# Altium schematic symbol library BiricuticoBonito.SchLib: 40 symbols (part 1 of 2)
Pins are listed as number, name and electrical type; pins without a type are passive.

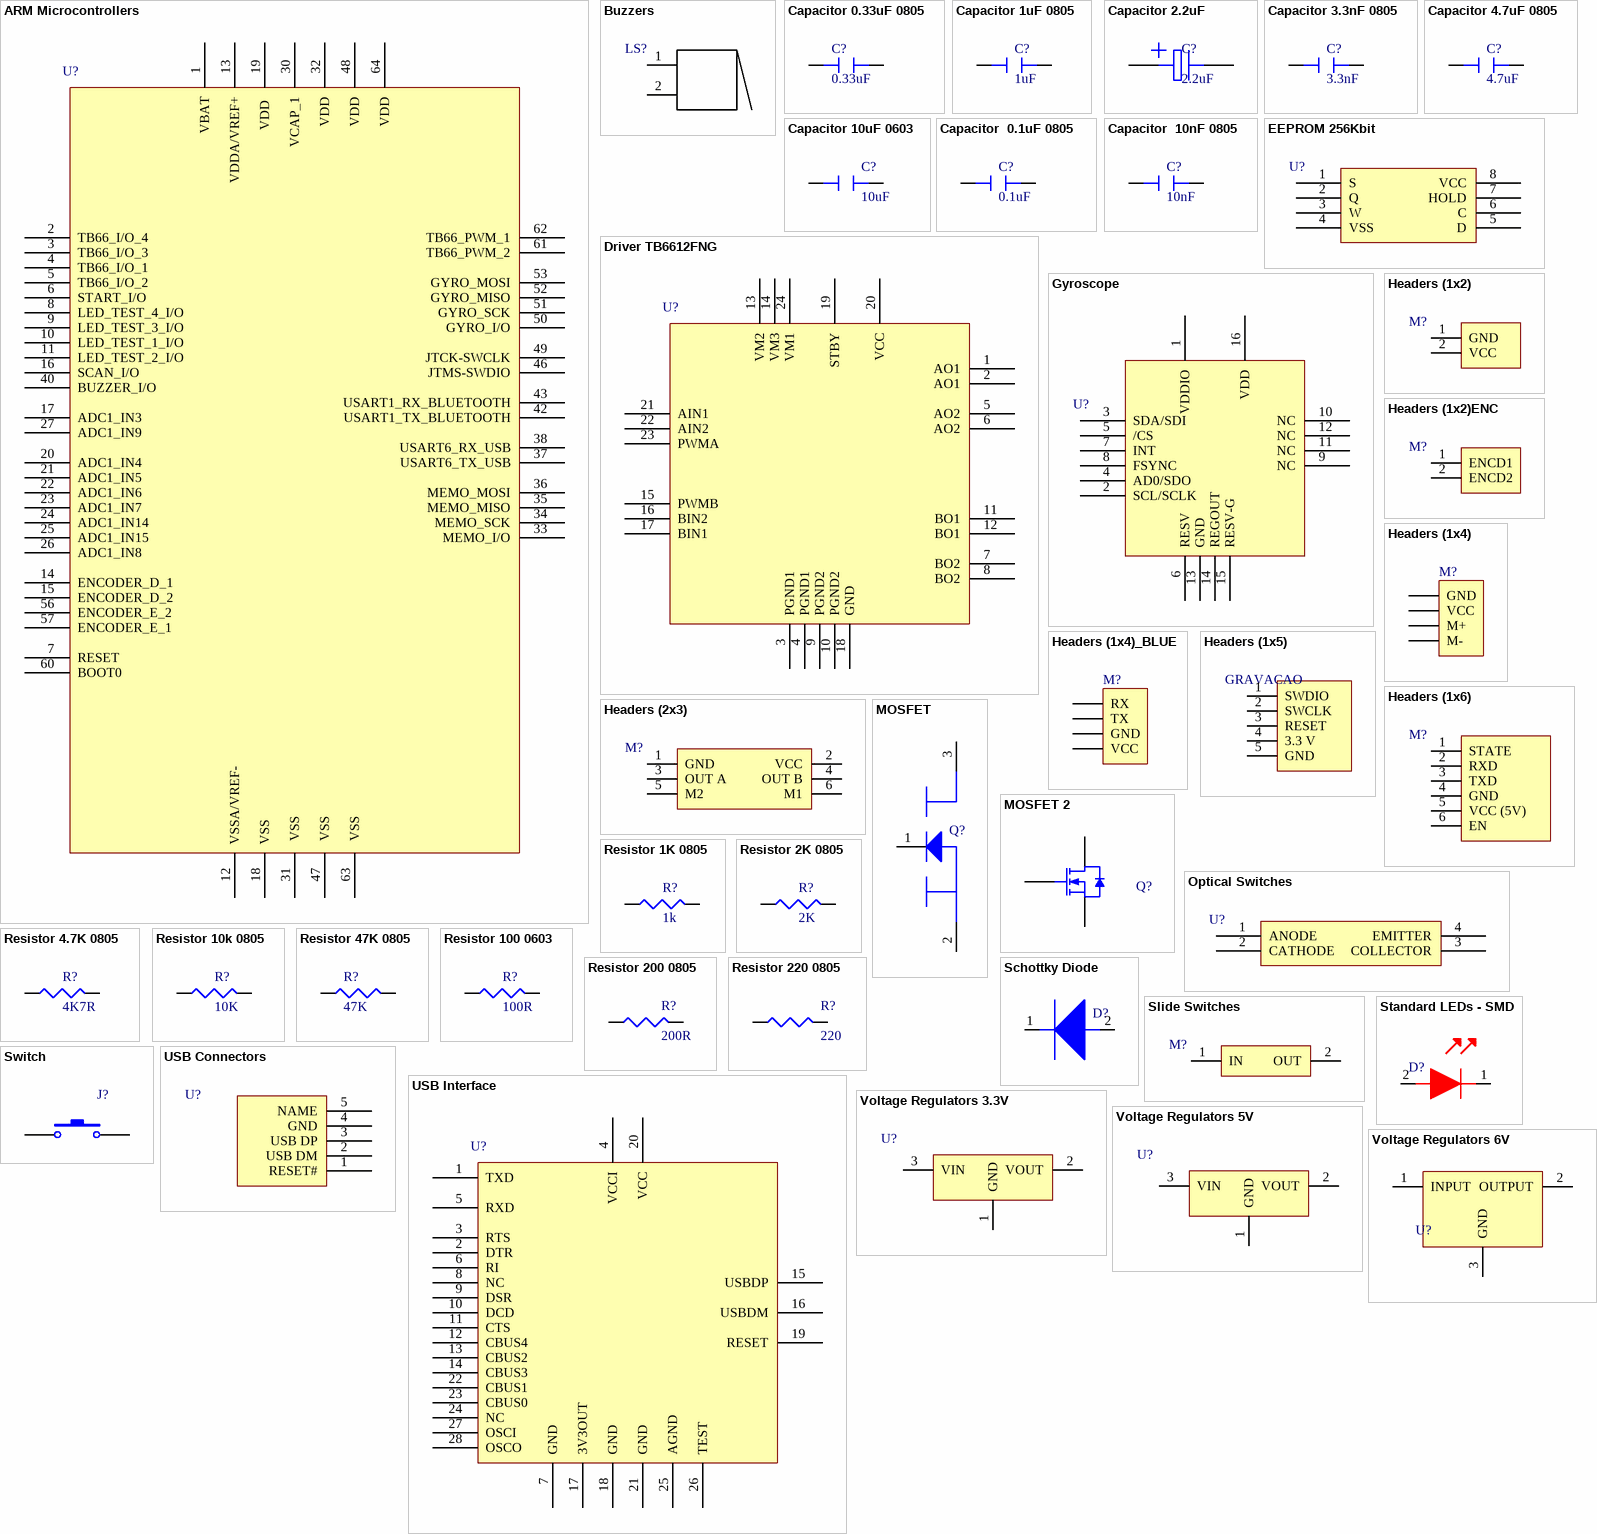
[diagram p0: symbols ARM Microcontrollers to Voltage Regulators 6V]

## ARM Microcontrollers
designator U?  (value not drawn)
MCU 32-bit STM32 ARM Cortex M4 RISC 128KB Flash 1.8V/2.5V/3.3V 64-Pin LQFP Tray; Manufacturer: STMicroelectronics; Manufacturer Part Number: STM32F401RBT6; RAM Size: 64KB; Max Power Dissipation: 313mW; Interface: I2C,SPI,I2S,USART,USB,IrDA,SDIO,UART,LIN; Number of I/Os: 50; Number of Timers/Counters: 8; Frequency: 84MHz; Max Supply Voltage: 3.6V; Min Supply Voltage: 1.8V; Oscillator Type: Internal; Data Bus Width: 32b; Watchdog Timer: Yes; Peripherals: Brown-out Detect/Reset,POR,PWM,WDT,DMA; Number of USB Channels: 1; Number of SPI Channels: 7; Operating Supply Voltage: 3.3V; Number of I2C Channels: 3; Number of PWM Channels: 4; Supplier 1: Mouser; Stock 1: 918; Pricing 1: 1=4.58, 10=4, 50=4, 100=3.37, 250=2.9, 500=2.81, 1000=2.42, 10000=2.42 (USD); Case/Package: LQFP; Number of Pins: 64; Weight: 0.012088oz; Min Operating Temperature: -40°C; Max Operating Temperature: 85°C; Memory Type: FLASH; Packaging: Tray; Number of Programmable I/O: 50; Max Frequency: 84MHz; Memory Size: 128KB; Core Architecture: ARM; Package Quantity: 960; Number of ADC Channels: 1; Length: 10mm; Height: 1.45mm; Width: 10mm; Radiation Hardening: No; REACH SVHC: No SVHC; Lead Free: Lead Free; Supplier Part Number 1: 511-STM32F401RBT6; Category: ARM Microcontrollers - MCU
footprint QFP50P1200X1200X160-64N
pins: 1 VBAT, 2 TB66_I/O_4, 3 TB66_I/O_3, 4 TB66_I/O_1, 5 TB66_I/O_2, 6 START_I/O, 7 RESET, 8 LED_TEST_4_I/O, 9 LED_TEST_3_I/O, 10 LED_TEST_1_I/O, 11 LED_TEST_2_I/O, 12 VSSA/VREF-, 13  VDDA/VREF+, 14 ENCODER_D_1, 15 ENCODER_D_2, 16 SCAN_I/O, 17 ADC1_IN3, 18 VSS, 19 VDD , 20 ADC1_IN4, 21 ADC1_IN5, 22 ADC1_IN6, 23 ADC1_IN7, 24 ADC1_IN14, 25 ADC1_IN15, 26 ADC1_IN8, 27 ADC1_IN9, 30 VCAP_1, 31  VSS, 32 VDD, 33 MEMO_I/O, 34 MEMO_SCK, 35 MEMO_MISO, 36 MEMO_MOSI, 37 USART6_TX_USB, 38 USART6_RX_USB, 40 BUZZER_I/O, 42 USART1_TX_BLUETOOTH, 43 USART1_RX_BLUETOOTH, 46 JTMS-SWDIO, 47  VSS, 48 VDD, 49 JTCK-SWCLK, 50 GYRO_I/O, 51 GYRO_SCK, 52 GYRO_MISO, 53 GYRO_MOSI, 56 ENCODER_E_2, 57 ENCODER_E_1, 60 BOOT0, 61 TB66_PWM_2, 62 TB66_PWM_1, 63  VSS, 64 VDD

## Buzzers
designator LS?  (value not drawn)
Audio 1.1Vp-p 3Vp-p 30mA 1.5Vp-p 85dBA 2400Hz to 2800Hz Through Hole Pin Bulk; Manufacturer: Mallory Sonalert; Manufacturer Part Number: PB-1226PEAQ; Shape: Round; Frequency: 2.6kHz; Operating Supply Voltage: 3V; Sensing Method: Magnetic; Washable: No; Supplier 1: Mouser; Stock 1: 5737; Pricing 1: 1=0.83, 10=0.66, 25=0.6, 50=0.561, 100=0.522, 250=0.478, 500=0.445, 1000=0.415, 2500=0.373, 10000=0.373 (USD); Mount: Through Hole; Min Operating Temperature: -30°C; Max Operating Temperature: 70°C; Packaging: Bulk; Package Quantity: 1; Operating Supply Current: 30mA; Termination: PC Pins; Diameter: 12mm; Height: 9.7mm; Depth: 9.5mm; ComponentLink1URL: http://www.mallory-sonalert.com/specifications/PB-1226PEAQ.pdf?src-supplier=Mouser; ComponentLink1Description: http://www.mallory-sonalert.com/specifications/PB-1226PEAQ.pdf?src-supplier=Mouser; ComponentLink2URL: http://www.mallory-sonalert.com/Specifications/PB-1226PEAQ.pdf?src-supplier=Digi-Key; ComponentLink2Description: http://www.mallory-sonalert.com/Specifications/PB-1226PEAQ.pdf?src-supplier=Digi-Key; ComponentLink3URL: https://www.alliedelec.com/m/d/fa962c4a5e81773ad0a24e293c835384.pdf?src-supplier=Allied+Electronics; ComponentLink3Description: https://www.alliedelec.com/m/d/fa962c4a5e81773ad0a24e293c835384.pdf?src-supplier=Allied+Electronics; Supplier Part Number 1: 539-PB1226PEAQ; Category: Piezo Buzzers & Audio Indicators
footprint Buzzer
pins: 1 20, 2 21

## Capacitor 0.33uF 0805
designator C?, comment 0.33uF
Multilayer Ceramic Capacitors MLCC - SMD/SMT 0805 0.33uF 16volts X7R 5%; Manufacturer: Vishay Vitramon; Manufacturer Part Number: VJ0805Y334JXJRW1BC; Dielectric Material: Tantalum; Capacitance: 330nF; Voltage Rating (DC): 16V; Supplier 1: Mouser; Stock 1: 9308; Pricing 1: 1=0.52, 10=0.52, 50=0.424, 100=0.308, 1000=0.135, 10000=0.075 (USD); Mount: Surface Mount; Case/Package: 0805; Weight: 0.000194oz; Case Code (Imperial): 0805; Case Code (Metric): 2012; Min Operating Temperature: -55°C; Max Operating Temperature: 125°C; Tolerance: 5%; Packaging: Tape and Reel; Package Quantity: 10000; Dielectric: X7R; Termination: SMD/SMT; Length: 2mm; Height: 1.45mm; Width: 1.25mm; Depth: 1.25mm; Lead Free: Lead Free; ComponentLink1URL: http://www.mouser.com/ds/2/427/vjw1bcbascomseries-223529.pdf?src-supplier=Mouser; ComponentLink1Description: http://www.mouser.com/ds/2/427/vjw1bcbascomseries-223529.pdf?src-supplier=Mouser; ComponentLink2URL: http://www.vishay.com/docs/28548/vjw1bcbascomseries.pdf?src-supplier=Avnet; ComponentLink2Description: http://www.vishay.com/docs/28548/vjw1bcbascomseries.pdf?src-supplier=Avnet; Supplier Part Number 1: 77-VJ0805Y334JXJRBC; Category: Multilayer Ceramic Capacitors MLCC - SMD/SMT
footprint CAPACITOR 0805
pins: 1 33, 2 34

## Capacitor 1uF 0805
designator C?, comment 1uF
Cap Ceramic 1uF 25V X7R 10% SMD 0805 125C Blister T/R; Manufacturer: Vishay; Manufacturer Part Number: VJ0805Y105KXXTW1BC; Dielectric Material: Tantalum; Supplier 1: Mouser; Stock 1: 40011; Pricing 1: 1=0.11, 10=0.11, 50=0.11, 100=0.055, 1000=0.038, 10000=0.038 (USD); Mount: Surface Mount; Case/Package: 0805; Min Operating Temperature: -55°C; Max Operating Temperature: 125°C; Capacitance: 1uF; Tolerance: 10%; Dielectric: X7R; Termination: Wraparound; Packaging: Tape and Reel; Voltage Rating (DC): 25V; Length: 2mm; Height: 1.25mm; Depth: 1.25mm; Radiation Hardening: No; Lead Free: Lead Free; ComponentLink1URL: http://www.vishay.com/docs/28548/vjw1bcbascomseries.pdf?src-supplier=Avnet+Europe; ComponentLink1Description: http://www.vishay.com/docs/28548/vjw1bcbascomseries.pdf?src-supplier=Avnet+Europe; Supplier Part Number 1: 77-VJ805Y105KXXTW1BC; Category: Multilayer Ceramic Capacitors MLCC - SMD/SMT
footprint CAPACITOR 0805
pins: 1 33, 2 34

## Capacitor 2.2uF
designator C?, comment 2.2uF
Cap Aluminum Lytic 2.2uF 50V 20% (4 X 5.4mm) SMD 30mA 1000h 105C Embossed T/R; Manufacturer: Panasonic; Manufacturer Part Number: EEE-FC1H2R2R; Material: Aluminium; Impedance: 5R; Polarity: Polar; Life (Hours): 1000Hour; Leakage Current: 3uA; Lead Length: 1.8mm; Supplier 1: Mouser; Stock 1: 26939; Pricing 1: 1=0.1, 10=0.063, 50=0.063, 100=0.063, 1000=0.063, 2000=0.055, 10000=0.055 (USD); Mount: Surface Mount,PCB; Case/Package: Radial; Number of Pins: 2; Contact Plating: Tin; Dielectric Material: Aluminium; Min Operating Temperature: -40°C; Max Operating Temperature: 105°C; Capacitance: 2.2uF; Tolerance: 20%; Packaging: Tape and Reel; Ripple Current: 30mA; Voltage Rating: 50V; Package Quantity: 1; Voltage Rating (DC): 50V; ESR (Equivalent Series Resistance): 5R; Ripple Current (AC): 30mA; Termination: SMD/SMT; Voltage: 50V; Diameter: 4mm; Length: 5.5mm; Height: 5.4mm; Height - Seated (Max): 0.213inch; Lead Pitch: 1mm; Width: 4.3mm; Radiation Hardening: No; REACH SVHC: No SVHC; Lead Free: Lead Free; ComponentLink1URL: http://www.jameco.com/Jameco/Products/ProdDS/1984136.pdf?src-supplier=Jameco; ComponentLink1Description: http://www.jameco.com/Jameco/Products/ProdDS/1984136.pdf?src-supplier=Jameco; ComponentLink2URL: http://industrial.panasonic.com/www-data/pdf/ABA0000/ABA0000CE5.pdf?src-supplier=Avnet; ComponentLink2Description: http://industrial.panasonic.com/www-data/pdf/ABA0000/ABA0000CE5.pdf?src-supplier=Avnet; ComponentLink3URL: http://www.mouser.com/ds/2/315/ABA0000C1172-947558.pdf?src-supplier=Mouser; ComponentLink3Description: http://www.mouser.com/ds/2/315/ABA0000C1172-947558.pdf?src-supplier=Mouser; ComponentLink4URL: https://www.alliedelec.com/m/d/5e395ce182861cdd9b9c36695bed6c89.pdf?src-supplier=Allied+Electronics; ComponentLink4Description: https://www.alliedelec.com/m/d/5e395ce182861cdd9b9c36695bed6c89.pdf?src-supplier=Allied+Electronics; ComponentLink5URL: http://www.farnell.com/datasheets/2245244.pdf?src-supplier=Farnell; ComponentLink5Description: http://www.farnell.com/datasheets/2245244.pdf?src-supplier=Farnell; ComponentLink6URL: http://www.farnell.com/datasheets/31718.pdf?src-supplier=Element14; ComponentLink6Description: http://www.farnell.com/datasheets/31718.pdf?src-supplier=Element14; ComponentLink7URL: http://uk.rs-online.com/webdocs/06bc/0900766b806bc525.pdf?src-supplier=RSComponents; ComponentLink7Description: http://uk.rs-online.com/webdocs/06bc/0900766b806bc525.pdf?src-supplier=RSComponents; ComponentLink8URL: http://industrial.panasonic.com/www-data/pdf/ABA0000/ABA0000CE5.pdf?src-supplier=Avnet+Europe; ComponentLink8Description: http://industrial.panasonic.com/www-data/pdf/ABA0000/ABA0000CE5.pdf?src-supplier=Avnet+Europe; ComponentLink9URL: https://www.distrelec.biz/Web/Downloads/_t/ds/EEEFC_series_eng_tds.pdf?mime=application%2Fpdf&src-supplier=Distrelec; ComponentLink9Description: https://www.distrelec.biz/Web/Downloads/_t/ds/EEEFC_series_eng_tds.pdf?mime=application%2Fpdf&src-supplier=Distrelec; ComponentLink10URL: https://www.alliedelec.com/m/d/ad9eed8922c31d260fc5efb233f3771b.pdf?src-supplier=Allied+Electronics; ComponentLink10Description: https://www.alliedelec.com/m/d/ad9eed8922c31d260fc5efb233f3771b.pdf?src-supplier=Allied+Electronics; ComponentLink11URL: http://www.farnell.com/datasheets/2059648.pdf?src-supplier=Farnell; ComponentLink11Description: http://www.farnell.com/datasheets/2059648.pdf?src-supplier=Farnell; ComponentLink12URL: http://www.produktinfo.conrad.com/datenblaetter/425000-449999/443525-da-01-en-SMD_ELKO_VFC_B_2_2_UF_50V.pdf?src-supplier=Conrad; ComponentLink12Description: http://www.produktinfo.conrad.com/datenblaetter/425000-449999/443525-da-01-en-SMD_ELKO_VFC_B_2_2_UF_50V.pdf?src-supplier=Conrad; Supplier Part Number 1: 667-EEE-FC1H2R2R; Category: Aluminum Electrolytic Capacitors - SMD
footprint Capacitor ALU
pins: 1 29, 2 30

## Capacitor 3.3nF 0805
designator C?, comment 3.3nF
Multilayer Ceramic Capacitors MLCC - SMD/SMT 3300PF 50V 10%; Manufacturer: Vishay Vitramon; Manufacturer Part Number: VJ0805Y332KXAMC; Dielectric: X7R; Supplier 1: Mouser; Stock 1: 1500; Pricing 1: 1=0.25, 10=0.207, 50=0.207, 100=0.088, 500=0.073, 1000=0.05, 3000=0.041, 6000=0.037, 9000=0.032, 10000=0.032, 24000=0.029 (USD); Mount: Surface Mount; Case/Package: 0805; Case Code (Imperial): 0805; Case Code (Metric): 2012; Min Operating Temperature: -55°C; Max Operating Temperature: 150°C; Capacitance: 3.3nF; Voltage Rating (DC): 50V; Tolerance: 10%; Packaging: Tape and Reel; Package Quantity: 3000; Termination: SMD/SMT; Length: 2mm; Height: 1.45mm; Width: 1.25mm; Depth: 1.25mm; ComponentLink1URL: http://www.mouser.com/ds/2/427/vjcommercialseries-222796.pdf?src-supplier=Mouser; ComponentLink1Description: http://www.mouser.com/ds/2/427/vjcommercialseries-222796.pdf?src-supplier=Mouser; ComponentLink2URL: http://components.arrow.com/part/dataview/0323_01569710?src-supplier=Arrow+Europe; ComponentLink2Description: http://components.arrow.com/part/dataview/0323_01569710?src-supplier=Arrow+Europe; ComponentLink3URL: http://www.vishay.com/docs/45199/commseri.pdf?src-supplier=Avnet; ComponentLink3Description: http://www.vishay.com/docs/45199/commseri.pdf?src-supplier=Avnet; ComponentLink4URL: http://www.vishay.com/docs/45199/vjcommercialseries.pdf?src-supplier=Digi-Key; ComponentLink4Description: http://www.vishay.com/docs/45199/vjcommercialseries.pdf?src-supplier=Digi-Key; Supplier Part Number 1: 77-VJ0805Y332KXAMC; Category: Multilayer Ceramic Capacitors MLCC - SMD/SMT
footprint CAPACITOR 0805
pins: 1 33, 2 34

## Capacitor 4.7uF 0805
designator C?, comment 4.7uF
MURATA - GRM21BR61H475KE51L - CAP, 4.7µF, 50V, 10%, X5R, 0805; Material: Ceramic; Supplier 1: Mouser; Manufacturer: Murata; Manufacturer Part Number: GRM21BR61H475KE51L; Stock 1: 243744; Pricing 1: 1=0.37, 10=0.256, 50=0.256, 100=0.153, 500=0.115, 1000=0.097, 3000=0.08, 6000=0.075, 9000=0.071, 10000=0.071 (USD); Mount: Surface Mount; Case/Package: 0805; Case Code (Metric): 2012; Case Code (Imperial): 0805; Min Operating Temperature: -55°C; Max Operating Temperature: 85°C; Capacitance: 4.7uF; Tolerance: 10%; Packaging: Tape and Reel; Dielectric: X5R; Voltage Rating: 50V; Voltage Rating (DC): 50V; Length: 2mm; Height: 1.25mm; Width: 0.049inch; Thickness: 0.055inch; Depth: 1.25mm; REACH SVHC: No SVHC; Lead Free: Lead Free; ComponentLink1URL: http://components.arrow.com/part/dataview/61084395S454511N2606?src-supplier=Arrow; ComponentLink1Description: http://components.arrow.com/part/dataview/61084395S454511N2606?src-supplier=Arrow; ComponentLink2URL: http://components.arrow.com/part/dataview/0323_07281654?src-supplier=Arrow+Europe; ComponentLink2Description: http://components.arrow.com/part/dataview/0323_07281654?src-supplier=Arrow+Europe; ComponentLink3URL: https://search.murata.co.jp/Ceramy/image/img/A01X/G101/ENG/GRM21BR61H475KE51-01.pdf?src-supplier=Digi-Key; ComponentLink3Description: https://search.murata.co.jp/Ceramy/image/img/A01X/G101/ENG/GRM21BR61H475KE51-01.pdf?src-supplier=Digi-Key; ComponentLink4URL: http://search.murata.co.jp/Ceramy/image/img/A01X/G101/ENG/GRM21BR61H475KE51-01.pdf?src-supplier=Digi-Key; ComponentLink4Description: http://search.murata.co.jp/Ceramy/image/img/A01X/G101/ENG/GRM21BR61H475KE51-01.pdf?src-supplier=Digi-Key; ComponentLink5URL: http://www.farnell.com/datasheets/2079186.pdf?src-supplier=Farnell; ComponentLink5Description: http://www.farnell.com/datasheets/2079186.pdf?src-supplier=Farnell; ComponentLink6URL: http://www.farnell.com/datasheets/2079186.pdf?src-supplier=Element14; ComponentLink6Description: http://www.farnell.com/datasheets/2079186.pdf?src-supplier=Element14; ComponentLink7URL: http://www.farnell.com/datasheets/2079186.pdf?src-supplier=Newark; ComponentLink7Description: http://www.farnell.com/datasheets/2079186.pdf?src-supplier=Newark; Supplier Part Number 1: 81-GRM21BR61H475KE1L; Category: Multilayer Ceramic Capacitors MLCC - SMD/SMT
footprint CAPACITOR 0805
pins: 1 33, 2 34

## Capacitor 10uF 0603
designator C?, comment 10uF
Capacitores de cerâmica multicamada MLCC - SMD/SMT 0603 16Vdc 10uF X6S 20%; Manufacturer: Murata; Manufacturer Part Number: GRT188C81C106ME13D; Voltage Rating: 16V; Voltage Rating (DC): 35V; Dielectric: X5R; Supplier 1: Mouser; Stock 1: 1580; Pricing 1: 10000=0.127 (USD); Mount: Surface Mount; Case/Package: 0603; Case Code (Metric): 1608; Case Code (Imperial): 0603; Min Operating Temperature: -55°C; Max Operating Temperature: 105°C; Packaging: Tape and Reel; Capacitance: 10uF; Tolerance: 20%; Length: 0.063inch; Width: 0.031inch; Thickness: 0.035inch; Ratings: AEC-Q200; ComponentLink1Description: Link Mouser; ComponentLink1URL: https://br.mouser.com/ProductDetail/Murata-Electronics/GRT188C81C106ME13D?qs=drgMNd%252bkGPNZ2BDWwi8nsA%3D%3D; Supplier 2: Mouser; Stock 2: 205123; Pricing 2: 1=0.45, 10=0.315, 100=0.188, 500=0.141, 1000=0.119, 4000=0.093, 8000=0.087, 12000=0.084, 24000=0.076 (USD); ComponentLink2URL: http://search.murata.co.jp/Ceramy/image/img/A01X/G101/ENG/GRM188R6YA106MA73-01.pdf?src-supplier=Digi-Key; ComponentLink2Description: http://search.murata.co.jp/Ceramy/image/img/A01X/G101/ENG/GRM188R6YA106MA73-01.pdf?src-supplier=Digi-Key; ComponentLink3URL: http://search.murata.co.jp/Ceramy/image/img/A01X/G101/ENG/GRM188R6YA106MA73-01.pdf?src-supplier=Mouser; ComponentLink3Description: http://search.murata.co.jp/Ceramy/image/img/A01X/G101/ENG/GRM188R6YA106MA73-01.pdf?src-supplier=Mouser; ComponentLink4URL: https://www.murata.com/~/media/webrenewal/support/library/catalog/products/capacitor/mlcc/c02e.ashx?la=en-us&src-supplier=Digi-Key; ComponentLink4Description: https://www.murata.com/~/media/webrenewal/support/library/catalog/products/capacitor/mlcc/c02e.ashx?la=en-us&src-supplier=Digi-Key; ComponentLink5URL: http://search.murata.co.jp/Ceramy/image/img/A01X/G101/ENG/GRM188R6YA106MA73-01.pdf?src-supplier=Future+Electronics; ComponentLink5Description: http://search.murata.co.jp/Ceramy/image/img/A01X/G101/ENG/GRM188R6YA106MA73-01.pdf?src-supplier=Future+Electronics; ComponentLink6URL: http://search.murata.co.jp/Ceramy/image/img/A01X/G101/ENG/GRM188R6YA106MA73-01.pdf?src-supplier=TTI; ComponentLink6Description: http://search.murata.co.jp/Ceramy/image/img/A01X/G101/ENG/GRM188R6YA106MA73-01.pdf?src-supplier=TTI; Category: Multilayer Ceramic Capacitors MLCC - SMD/SMT; Supplier Part Number 2: 81-GRM188R6YA106MA3D
footprint CAPACITOR 0603
pins: 1 33, 2 34

## Capacitor  0.1uF 0805
designator C?, comment 0.1uF
Multilayer Ceramic Capacitors MLCC - SMD/SMT .1uF 50volts 10%; Manufacturer: Vishay Vitramon; Manufacturer Part Number: VJ0805Y104KXAAT; Capacitance: 100nF; Voltage Rating: 50V; Dielectric: X7R; Supplier 1: Mouser; Stock 1: 207342; Pricing 1: 1=0.2, 10=0.2, 50=0.162, 100=0.108, 500=0.095, 1000=0.084, 3000=0.072, 6000=0.069, 9000=0.065, 10000=0.065 (USD); Mount: Surface Mount; Case/Package: 0805; Weight: 0.000194oz; Case Code (Metric): 2012; Case Code (Imperial): 0805; Min Operating Temperature: -55°C; Max Operating Temperature: 125°C; Tolerance: 10%; Package Quantity: 1; Packaging: Tape and Reel; Voltage Rating (DC): 50V; Termination: SMD/SMT; Voltage: 50V; Length: 2mm; Height: 1.45mm; Width: 0.049inch; Thickness: 0.057inch; Depth: 1.25mm; Radiation Hardening: No; REACH SVHC: Unknown; Lead Free: Lead Free; ComponentLink1URL: http://www.mouser.com/ds/2/427/vjcommercialseries-222796.pdf?src-supplier=Mouser; ComponentLink1Description: http://www.mouser.com/ds/2/427/vjcommercialseries-222796.pdf?src-supplier=Mouser; ComponentLink2URL: http://www.vishay.com/docs/45199/vjcommercialseries.pdf?src-supplier=Digi-Key; ComponentLink2Description: http://www.vishay.com/docs/45199/vjcommercialseries.pdf?src-supplier=Digi-Key; ComponentLink3URL: http://www.vishay.com/docs/45199/vjcommercialseries.pdf?src-supplier=Future+Electronics; ComponentLink3Description: http://www.vishay.com/docs/45199/vjcommercialseries.pdf?src-supplier=Future+Electronics; Supplier Part Number 1: 77-VJ0805Y104KXAAT; Category: Multilayer Ceramic Capacitors MLCC - SMD/SMT
footprint CAPACITOR 0805
pins: 1 33, 2 34

## Capacitor  10nF 0805
designator C?, comment 10nF
Multilayer Ceramic Capacitors MLCC - SMD/SMT .01uF 50volts 10%; Manufacturer: Vishay Vitramon; Manufacturer Part Number: VJ0805Y103KXAAC; Voltage Rating: 50V; Dielectric: X7R; Supplier 1: Mouser; Stock 1: 543640; Pricing 1: 1=0.26, 10=0.202, 50=0.202, 100=0.09, 500=0.074, 1000=0.051, 3000=0.042, 6000=0.038, 9000=0.033, 10000=0.033, 24000=0.03 (USD); Mount: Surface Mount; Case/Package: 0805; Case Code (Imperial): 0805; Case Code (Metric): 2012; Contact Plating: Tin,Matte; Min Operating Temperature: -55°C; Max Operating Temperature: 125°C; Capacitance: 10nF; Tolerance: 10%; Packaging: Tape and Reel; Voltage Rating (DC): 50V; Package Quantity: 1; Termination: SMD/SMT; Length: 2mm; Height: 1.45mm; Width: 1.25mm; Thickness: 0.057inch; Depth: 1.25mm; Radiation Hardening: No; REACH SVHC: Unknown; Lead Free: Lead Free; ComponentLink1URL: http://www.vishay.com/docs/45051/vjvitramonpackaging.pdf?src-supplier=Digi-Key; ComponentLink1Description: http://www.vishay.com/docs/45051/vjvitramonpackaging.pdf?src-supplier=Digi-Key; ComponentLink2URL: http://www.farnell.com/datasheets/2049140.pdf?src-supplier=Element14; ComponentLink2Description: http://www.farnell.com/datasheets/2049140.pdf?src-supplier=Element14; Category: Multilayer Ceramic Capacitors MLCC - SMD/SMT
footprint CAPACITOR 0805
pins: 1 33, 2 34

## Driver TB6612FNG
designator U?  (value not drawn)
DC Motor Driver 3V 24-Pin SSOP T/R; Manufacturer: Toshiba; Manufacturer Part Number: TB6612FNG,C,8,EL; Number of Outputs: 2; Min Supply Voltage: 2.7V; Max Supply Voltage: 5.5V; Output Current: 1A; Logic Function: AND; Interface: Parallel; Supplier 1: Mouser; Stock 1: 0; Pricing 1: 1=1.58, 10=1.53, 50=1.53, 100=1.22, 500=1.09, 1000=0.985, 2000=0.91, 10000=0.825 (USD); Mount: Surface Mount; Case/Package: SSOP; Number of Pins: 24; Min Operating Temperature: -20°C; Max Operating Temperature: 85°C; Packaging: Tape and Reel; Package Quantity: 1; Operating Supply Voltage: 3V; ComponentLink1URL: http://www.mouser.com/ds/2/408/TB6612FNG_datasheet_en_20141001-736972.pdf?src-supplier=Mouser; ComponentLink1Description: http://www.mouser.com/ds/2/408/TB6612FNG_datasheet_en_20141001-736972.pdf?src-supplier=Mouser; Supplier Part Number 1: 757-TB6612FNGC8EL; Category: Motor / Motion / Ignition Controllers & Drivers
footprint SOP65P760X160-24N
pins: 1 AO1, 2 AO1, 3 PGND1, 4 PGND1, 5 AO2, 6 AO2, 7 BO2, 8 BO2, 9 PGND2, 10 PGND2, 11 BO1, 12 BO1, 13 VM2, 14 VM3, 15 PWMB, 16 BIN2, 17 BIN1, 18 GND, 19 STBY, 20 VCC, 21 AIN1, 22 AIN2, 23 PWMA, 24 VM1

## EEPROM 256Kbit
designator U?  (value not drawn)
IC EEPROM 256KBIT 2MHZ 8SOIC; Manufacturer: STMicroelectronics; Manufacturer Part Number: M95256-DRMN8TP/K; Interface: SPI,Serial; Supplier 1: Mouser; Stock 1: 2067; Pricing 1: 1=0.74, 10=0.657, 50=0.657, 100=0.582, 500=0.573, 1000=0.553, 2500=0.461, 5000=0.456, 10000=0.441, 25000=0.395 (USD); Case/Package: SOIC; Number of Pins: 8; Min Operating Temperature: -40°C; Max Operating Temperature: 105°C; Packaging: Tape and Reel; Memory Type: EEPROM; Frequency: 2MHz; ComponentLink1URL: http://www.mouser.com/ds/2/389/DM00159861-542294.pdf?src-supplier=Mouser; ComponentLink1Description: http://www.mouser.com/ds/2/389/DM00159861-542294.pdf?src-supplier=Mouser; ComponentLink2URL: http://www.st.com/st-web-ui/static/active/en/resource/technical/document/datasheet/DM00159861.pdf?src-supplier=Avnet; ComponentLink2Description: http://www.st.com/st-web-ui/static/active/en/resource/technical/document/datasheet/DM00159861.pdf?src-supplier=Avnet; ComponentLink3URL: http://www.st.com/content/ccc/resource/technical/document/datasheet/group3/c8/e0/71/cd/07/cf/48/38/DM00159861/files/DM00159861.pdf/jcr:content/translations/en.DM00159861.pdf?src-supplier=Digi-Key; ComponentLink3Description: http://www.st.com/content/ccc/resource/technical/document/datasheet/group3/c8/e0/71/cd/07/cf/48/38/DM00159861/files/DM00159861.pdf/jcr:content/translations/en.DM00159861.pdf?src-supplier=Digi-Key; Supplier Part Number 1: 511-M95256-DRMN8TP/K; Category: EEPROM
footprint M95256-DRMN8TP/K (SOIC, 8-Leads, Body 4,95x3,95mm, Pitch 1,27mm, IPC Medium Density)
pins: 1 S, 2 Q, 3 W, 4 VSS, 5 D, 6 C, 7 HOLD, 8 VCC

## Gyroscope
designator U?  (value not drawn)
MEMS GYROSCOPE 1-AXIS 16QFN; Manufacturer: TDK InvenSense; Output Type: SPI,I2C; Axis: Z; Bandwidth: 5Hz; Operating Supply Current: 2.8mA; Supplier 1: Mouser; Manufacturer Part Number: ISZ-2510; Stock 1: 0; Min Operating Temperature: -40°C; Max Operating Temperature: 85°C; Packaging: Tape and Reel; ComponentLink1URL: https://store.invensense.com/datasheets/invensense/PS-ISZ-2510A-00.pdf?src-supplier=Digi-Key; ComponentLink1Description: https://store.invensense.com/datasheets/invensense/PS-ISZ-2510A-00.pdf?src-supplier=Digi-Key; Supplier Part Number 1: 410-ISZ-2510; Category: Gyroscopes
footprint GYROSCOPE
pins: 1 VDDIO, 2 SCL/SCLK, 3 SDA/SDI, 4 AD0/SDO, 5 /CS, 6 RESV, 7 INT, 8 FSYNC, 9 NC, 10 NC, 11 NC, 12 NC, 13 GND, 14 REGOUT, 15 RESV-G, 16 VDD

## Headers (1x2)
designator M?  (value not drawn)
Headers & Wire Housings HDR STRT SINGLE 2P; Manufacturer: Molex; Manufacturer Part Number: 90136-1202; Number of Poles: 2; Current Rating: 3A; Voltage Rating (AC): 350V; Contact Resistance: 20mR; Max Voltage Rating (DC): 350.35kV; Insulation Resistance: 5GR; Gender: Male; Pitch: 2.54mm; Glow Wire Compliant: Non-compliant; Supplier 1: Mouser; Stock 1: 2623; Pricing 1: 1=1.07, 10=0.89, 50=0.89, 100=0.776, 500=0.677, 1000=0.613, 2500=0.536, 10000=0.492, 25000=0.479, 50000=0.467 (USD); Mount: Through Hole; Contact Plating: Gold; Contact Material: Brass,Copper Alloy; Color: Black; Housing Color: Black; Housing Material: Polyester; Min Operating Temperature: -55°C; Max Operating Temperature: 125°C; Number of Rows: 1; Packaging: Tray; Package Quantity: 3040; Voltage Rating: 350V; Number of Positions: 2; Termination: Through Hole; Number of Circuits: 2; Number of Contacts: 2; Working Voltage: 350V; Orientation: Vertical; Voltage Rating (DC): 350V; Lead Pitch: 2.54mm; Radiation Hardening: No; REACH SVHC: Unknown; Lead Free: Lead Free; Flammability Rating: UL94 V-0; ComponentLink1URL: http://www.molex.com/webdocs/datasheets/pdf/en-us/0901361202_PCB_HEADERS.pdf?src-supplier=Avnet+Europe; ComponentLink1Description: http://www.molex.com/webdocs/datasheets/pdf/en-us/0901361202_PCB_HEADERS.pdf?src-supplier=Avnet+Europe; ComponentLink2URL: http://www.mouser.com/ds/2/276/0901361202_PCB_HEADERS-176812.pdf?src-supplier=Mouser; ComponentLink2Description: http://www.mouser.com/ds/2/276/0901361202_PCB_HEADERS-176812.pdf?src-supplier=Mouser; ComponentLink3URL: http://www.molex.com/webdocs/datasheets/pdf/en-us/0901361202_PCB_HEADERS.pdf?src-supplier=Avnet; ComponentLink3Description: http://www.molex.com/webdocs/datasheets/pdf/en-us/0901361202_PCB_HEADERS.pdf?src-supplier=Avnet; ComponentLink4URL: https://www.distrelec.biz/Web/Downloads/_d/wg/cgrid_III_90136_eng_dwg.pdf?mime=application%2Fpdf&src-supplier=Distrelec; ComponentLink4Description: https://www.distrelec.biz/Web/Downloads/_d/wg/cgrid_III_90136_eng_dwg.pdf?mime=application%2Fpdf&src-supplier=Distrelec; ComponentLink5URL: http://uk.rs-online.com/webdocs/1362/0900766b81362c51.pdf?src-supplier=RSComponents; ComponentLink5Description: http://uk.rs-online.com/webdocs/1362/0900766b81362c51.pdf?src-supplier=RSComponents; ComponentLink6URL: http://www.onlinecomponents.com/productFiles/mf-MOL/248400901361202_pcb_headers.pdf?src-supplier=Onlinecomponents.com; ComponentLink6Description: http://www.onlinecomponents.com/productFiles/mf-MOL/248400901361202_pcb_headers.pdf?src-supplier=Onlinecomponents.com; Supplier Part Number 1: 538-90136-1202; Category: Headers & Wire Housings
footprint BATT
pins: 1 GND, 2 VCC

## Headers (1x2)ENC
designator M?  (value not drawn)
Headers & Wire Housings HDR STRT SINGLE 2P; Manufacturer: Molex; Manufacturer Part Number: 90136-1202; Number of Poles: 2; Current Rating: 3A; Voltage Rating (AC): 350V; Contact Resistance: 20mR; Max Voltage Rating (DC): 350.35kV; Insulation Resistance: 5GR; Gender: Male; Pitch: 2.54mm; Glow Wire Compliant: Non-compliant; Supplier 1: Mouser; Stock 1: 2623; Pricing 1: 1=1.07, 10=0.89, 50=0.89, 100=0.776, 500=0.677, 1000=0.613, 2500=0.536, 10000=0.492, 25000=0.479, 50000=0.467 (USD); Mount: Through Hole; Contact Plating: Gold; Contact Material: Brass,Copper Alloy; Color: Black; Housing Color: Black; Housing Material: Polyester; Min Operating Temperature: -55°C; Max Operating Temperature: 125°C; Number of Rows: 1; Packaging: Tray; Package Quantity: 3040; Voltage Rating: 350V; Number of Positions: 2; Termination: Through Hole; Number of Circuits: 2; Number of Contacts: 2; Working Voltage: 350V; Orientation: Vertical; Voltage Rating (DC): 350V; Lead Pitch: 2.54mm; Radiation Hardening: No; REACH SVHC: Unknown; Lead Free: Lead Free; Flammability Rating: UL94 V-0; ComponentLink1URL: http://www.molex.com/webdocs/datasheets/pdf/en-us/0901361202_PCB_HEADERS.pdf?src-supplier=Avnet+Europe; ComponentLink1Description: http://www.molex.com/webdocs/datasheets/pdf/en-us/0901361202_PCB_HEADERS.pdf?src-supplier=Avnet+Europe; ComponentLink2URL: http://www.mouser.com/ds/2/276/0901361202_PCB_HEADERS-176812.pdf?src-supplier=Mouser; ComponentLink2Description: http://www.mouser.com/ds/2/276/0901361202_PCB_HEADERS-176812.pdf?src-supplier=Mouser; ComponentLink3URL: http://www.molex.com/webdocs/datasheets/pdf/en-us/0901361202_PCB_HEADERS.pdf?src-supplier=Avnet; ComponentLink3Description: http://www.molex.com/webdocs/datasheets/pdf/en-us/0901361202_PCB_HEADERS.pdf?src-supplier=Avnet; ComponentLink4URL: https://www.distrelec.biz/Web/Downloads/_d/wg/cgrid_III_90136_eng_dwg.pdf?mime=application%2Fpdf&src-supplier=Distrelec; ComponentLink4Description: https://www.distrelec.biz/Web/Downloads/_d/wg/cgrid_III_90136_eng_dwg.pdf?mime=application%2Fpdf&src-supplier=Distrelec; ComponentLink5URL: http://uk.rs-online.com/webdocs/1362/0900766b81362c51.pdf?src-supplier=RSComponents; ComponentLink5Description: http://uk.rs-online.com/webdocs/1362/0900766b81362c51.pdf?src-supplier=RSComponents; ComponentLink6URL: http://www.onlinecomponents.com/productFiles/mf-MOL/248400901361202_pcb_headers.pdf?src-supplier=Onlinecomponents.com; ComponentLink6Description: http://www.onlinecomponents.com/productFiles/mf-MOL/248400901361202_pcb_headers.pdf?src-supplier=Onlinecomponents.com; Supplier Part Number 1: 538-90136-1202; Category: Headers & Wire Housings
footprint HDR1X2 (Connector; Header; 2 Position)
pins: 1 ENCD1, 2 ENCD2

## Headers (1x4)
designator M?
Header, 4-Pin; LatestRevisionDate: 17-Jul-2002; LatestRevisionNote: Re-released for DXP Platform.; Publisher: Altium Limited
footprint HDR1X4 (Connector; Header; 4 Position)
pins: 1 GND, 2 VCC, 3 M+, 4 M-

## Headers (1x4)_BLUE
designator M?
Header, 4-Pin; LatestRevisionDate: 17-Jul-2002; LatestRevisionNote: Re-released for DXP Platform.; Publisher: Altium Limited
footprint HDR1X4 (Connector; Header; 4 Position)
pins: 1 RX, 2 TX, 3 GND, 4 VCC

## Headers (1x5)
designator GRAVACAO  (value not drawn)
Conn Unshrouded Header HDR 5 POS 2.54mm Solder ST Thru-Hole Bag; Manufacturer: Molex; Manufacturer Part Number: 0022284053; Contact Resistance: 20mR; Number of Positions: 5; Max Voltage Rating (AC): 250V; Gender: Male; Connector Type: Male Pin; Supplier 1: Mouser; Stock 1: 10577; Pricing 1: 1=0.4, 10=0.373, 25=0.335, 50=0.298, 100=0.286, 250=0.261, 500=0.248, 1000=0.205, 2500=0.186, 10000=0.186 (USD); Mount: Through Hole; Color: Black; Contact Plating: Gold; Contact Material: Bronze; Housing Color: Black; Housing Material: Nylon; Min Operating Temperature: 0°C; Max Operating Temperature: 75°C; Package Quantity: 1; Packaging: Bulk; Number of Rows: 1; Termination: Solder; Number of Contacts: 5; Max Voltage Rating (DC): 250V; Orientation: Straight; Length: 12.7mm; Pitch: 2.54mm; Contact Mating Length: 0.24inch; Depth: 2.49mm; ComponentLink1URL: http://www.molex.com/webdocs/datasheets/pdf/en-us/0022284053_PCB_HEADERS.pdf?src-supplier=Avnet; ComponentLink1Description: http://www.molex.com/webdocs/datasheets/pdf/en-us/0022284053_PCB_HEADERS.pdf?src-supplier=Avnet; ComponentLink2URL: http://www.molex.com/pdm_docs/sd/022284053_sd.pdf?src-supplier=Digi-Key; ComponentLink2Description: http://www.molex.com/pdm_docs/sd/022284053_sd.pdf?src-supplier=Digi-Key; Supplier Part Number 1: 538-22-28-4053; Category: Headers & Wire Housings
footprint HDR1X5 (Connector; Header; 5 Position)
pins: 1 SWDIO, 2 SWCLK, 3 RESET, 4 3.3 V, 5 GND

## Headers (1x6)
designator M?  (value not drawn)
CONNECTOR, PCB, 6WAY; Manufacturer: Molex; Manufacturer Part Number: 0022182063; Voltage Rating: 250V; Current Rating: 2.5A; Number of Positions: 6; Gender: Receptacle; Pitch: 2.54mm; Glow Wire Compliant: Non-compliant; Supplier 1: Mouser; Stock 1: 1174; Pricing 1: 1=2.18, 10=1.95, 50=1.95, 100=1.69, 250=1.53, 500=1.41, 1000=1.21, 2500=1.13, 5000=1.07, 10000=1.05 (USD); Case/Package: 100; Contact Plating: Gold; Contact Material: Bronze; Housing Material: Nylon; Contact Gender: Female; Package Quantity: 1512; Number of Rows: 1; Packaging: Tray; Termination: Through Hole; Number of Contacts: 6; Orientation: Vertical; Number of Circuits: 6; Halogen Free: Low Halogen; ComponentLink1URL: http://www.molex.com/webdocs/datasheets/pdf/en-us/0022182063_PCB_RECEPTACLES.pdf?src-supplier=Avnet; ComponentLink1Description: http://www.molex.com/webdocs/datasheets/pdf/en-us/0022182063_PCB_RECEPTACLES.pdf?src-supplier=Avnet; ComponentLink2URL: http://www.molex.com/pdm_docs/ps/PS-10-07-001.pdf?src-supplier=Digi-Key; ComponentLink2Description: http://www.molex.com/pdm_docs/ps/PS-10-07-001.pdf?src-supplier=Digi-Key; ComponentLink3URL: http://www.farnell.com/cad/1574985.pdf?src-supplier=Element14; ComponentLink3Description: http://www.farnell.com/cad/1574985.pdf?src-supplier=Element14; Supplier Part Number 1: 538-22-18-2063; Category: Headers & Wire Housings
footprint HDR1X6 (Connector; Header; 6 Position)
pins: 1 STATE, 2 RXD, 3 TXD, 4 GND, 5 VCC (5V), 6 EN

## Headers (2x3)
designator M?  (value not drawn)
Headers & Wire Housings 2.54MM CGRIDIII HDR 6P VERT DR SEL AU; Manufacturer: Molex; Manufacturer Part Number: 90131-0763; Contact Resistance: 20mR; Current Rating: 3A; Number of Poles: 6; Voltage Rating (AC): 350V; Insulation Resistance: 5GR; Gender: Male; Supplier 1: Mouser; Stock 1: 1259; Pricing 1: 1=1.45, 10=1.24, 50=1.24, 100=1.09, 1000=0.832, 10000=0.672 (USD); Mount: Through Hole; Contact Plating: Gold,Tin; Contact Material: Brass; Material: Glass,Polyester; Housing Color: Black; Housing Material: Polyester; Min Operating Temperature: -55°C; Max Operating Temperature: 125°C; Number of Rows: 2; Voltage Rating: 350V; Packaging: Tray; Package Quantity: 2400; Number of Positions: 6; Termination: Through Hole; Number of Contacts: 6; Working Voltage: 350V; Orientation: Straight; Lead Pitch: 2.54mm; Pitch: 2.54mm; Radiation Hardening: No; REACH SVHC: Unknown; Lead Free: Lead Free; ComponentLink1URL: http://uk.rs-online.com/webdocs/13c4/0900766b813c4cdb.pdf?src-supplier=RSComponents; ComponentLink1Description: http://uk.rs-online.com/webdocs/13c4/0900766b813c4cdb.pdf?src-supplier=RSComponents; ComponentLink2URL: http://www.molex.com/webdocs/datasheets/pdf/en-us/0901310763_PCB_HEADERS.pdf?src-supplier=Avnet+Europe; ComponentLink2Description: http://www.molex.com/webdocs/datasheets/pdf/en-us/0901310763_PCB_HEADERS.pdf?src-supplier=Avnet+Europe; ComponentLink3URL: http://www.mouser.com/ds/2/276/0901310763_PCB_HEADERS-151716.pdf?src-supplier=Mouser; ComponentLink3Description: http://www.mouser.com/ds/2/276/0901310763_PCB_HEADERS-151716.pdf?src-supplier=Mouser; Supplier Part Number 1: 538-90131-0763; Category: Headers & Wire Housings
footprint Encoder
pins: 1 GND, 2 VCC, 3 OUT A, 4 OUT B, 5 M2, 6 M1

## MOSFET
designator Q?  (value not drawn)
MOSFET N-CH 30V 6.2A SOT23; Manufacturer: Diodes; Manufacturer Part Number: DMN3023L-7; Rds On Max: 25mR; Input Capacitance: 873pF; Max Power Dissipation: 900mW; Supplier 1: Mouser; Stock 1: 65104; Pricing 1: 1=0.35, 10=0.271, 50=0.271, 100=0.147, 1000=0.11, 3000=0.095, 9000=0.089, 10000=0.089 (USD); Mount: Surface Mount; Case/Package: TO-236-3; Min Operating Temperature: -55°C; Max Operating Temperature: 150°C; Packaging: Tape and Reel; Drain to Source Voltage (Vdss): 30V; Continuous Drain Current (ID): 6.2A; ComponentLink1URL: https://www.diodes.com/assets/Datasheets/DMN3023L.pdf?src-supplier=Digi-Key; ComponentLink1Description: https://www.diodes.com/assets/Datasheets/DMN3023L.pdf?src-supplier=Digi-Key; ComponentLink2URL: http://www.farnell.com/datasheets/2814401.pdf?src-supplier=Newark; ComponentLink2Description: http://www.farnell.com/datasheets/2814401.pdf?src-supplier=Newark; ComponentLink3URL: http://www.mouser.com/ds/2/115/DMN3023L-959533.pdf?src-supplier=Mouser; ComponentLink3Description: http://www.mouser.com/ds/2/115/DMN3023L-959533.pdf?src-supplier=Mouser; Supplier Part Number 1: 621-DMN3023L-7; Category: MOSFET
footprint SOT96P240X110-3N
pins: 1 24, 2 26, 3 25

## MOSFET 2
designator Q?, comment Mosfet N-CHANNEL  (value not drawn)
MOSFET N-CHANNEL 60V 115mA; Manufacturer: ON Semiconductor / Fairchild; Manufacturer Part Number: 2N7002; Max Power Dissipation: 200mW; Drain to Source Resistance: 1.2R; Gate to Source Voltage (Vgs): 20V; Element Configuration: Single; Input Capacitance: 50pF; Number of Elements: 1; Rds On Max: 7.5R; Threshold Voltage: 2.1V; On-State Resistance: 5.3R; ComponentLink1URL: http://www.farnell.com/datasheets/2299562.pdf?src-supplier=Farnell; ComponentLink1Description: http://www.farnell.com/datasheets/2299562.pdf?src-supplier=Farnell; ComponentLink2URL: http://www.rapidonline.com/pdf/47-0120.pdf?src-supplier=Rapid+Electronics; ComponentLink2Description: http://www.rapidonline.com/pdf/47-0120.pdf?src-supplier=Rapid+Electronics; ComponentLink3URL: https://www.fairchildsemi.com/package-drawings/MA/MA03B.pdf?src-supplier=Digi-Key; ComponentLink3Description: https://www.fairchildsemi.com/package-drawings/MA/MA03B.pdf?src-supplier=Digi-Key; ComponentLink4URL: http://www.farnell.com/datasheets/2299562.pdf?src-supplier=Newark; ComponentLink4Description: http://www.farnell.com/datasheets/2299562.pdf?src-supplier=Newark; ComponentLink5URL: https://www.onsemi.com/pub/Collateral/NDS7002A-D.PDF?src-supplier=Digi-Key; ComponentLink5Description: https://www.onsemi.com/pub/Collateral/NDS7002A-D.PDF?src-supplier=Digi-Key; ComponentLink6URL: http://www.farnell.com/datasheets/2299562.pdf?src-supplier=Element14; ComponentLink6Description: http://www.farnell.com/datasheets/2299562.pdf?src-supplier=Element14; ComponentLink7URL: https://www.verical.com/server-webapp/html/getDatasheet?partID=93547&src-supplier=Verical; ComponentLink7Description: https://www.verical.com/server-webapp/html/getDatasheet?partID=93547&src-supplier=Verical; ComponentLink8URL: http://www.fairchildsemi.com/ds/2N/2N7002.pdf?src-supplier=Future+Electronics; ComponentLink8Description: http://www.fairchildsemi.com/ds/2N/2N7002.pdf?src-supplier=Future+Electronics; ComponentLink9URL: https://www.fairchildsemi.com/datasheets/ND/NDS7002A.pdf?src-supplier=Avnet; ComponentLink9Description: https://www.fairchildsemi.com/datasheets/ND/NDS7002A.pdf?src-supplier=Avnet; Supplier 1: Mouser; Stock 1: 668563; Pricing 1: 1=0.32, 10=0.22, 100=0.091, 1000=0.062, 3000=0.049, 9000=0.041, 24000=0.039, 45000=0.036, 99000=0.035 (USD); Mount: Surface Mount; Case/Package: SOT-23; Number of Pins: 3; Contact Plating: Tin,Matte; Min Operating Temperature: -55°C; Max Operating Temperature: 150°C; Drain to Source Voltage (Vdss): 60V; Continuous Drain Current (ID): 115mA; Packaging: Tape and Reel; Package Quantity: 1; Drain to Source Breakdown Voltage: 60V; Power Dissipation: 200mW; Nominal Vgs: 2.1V; Voltage Rating (DC): 60V; Current Rating: 115mA; Dual Supply Voltage: 60V; Voltage: 60V; Current: 115mA; Length: 2.92mm; Height: 0.93mm; Width: 3.05mm; Radiation Hardening: No; Lead Free: Lead Free; REACH SVHC: No SVHC; Category: MOSFET; Supplier Part Number 1: 512-2N7002
footprint SOT96P240X110-3N
pins: 1 G, 2 S, 3 D

## Optical Switches
designator U?  (value not drawn)
SENSOR OPTO TRANS REFL SMD PHOTO; Manufacturer: ON Semiconductor / Fairchild; Manufacturer Part Number: QRE1113GR; Wavelength: 940nm; Forward Current: 50mA; Rise Time: 20us; Forward Voltage: 1.2V; Sensing Distance: 0.197inch; Collector Emitter Voltage (VCEO): 30V; Max Collector Current: 20mA; Number of Channels: 1; Reverse Breakdown Voltage: 5V; Power Dissipation: 75mW; Operating Supply Voltage: 1.7V; Output Type: Phototransistor; Supplier 1: Mouser; Stock 1: 10425; Pricing 1: 1=0.86, 10=0.713, 50=0.713, 100=0.46, 1000=0.368, 10000=0.3 (USD); Mount: Surface Mount; Case/Package: SMD/SMT; Number of Pins: 4; Weight: 0.078g; Contact Plating: Tin,Matte; Min Operating Temperature: -40°C; Max Operating Temperature: 85°C; Packaging: Tape and Reel; Fall Time: 20us; Package Quantity: 1000; Reverse Voltage (DC): 5V; Collector Emitter Breakdown Voltage: 30V; Response Time: 20us; Max Breakdown Voltage: 30V; Number of Elements: 1; Input Current: 50mA; Max Power Dissipation: 75mW; Length: 3.6mm; Height: 1.7mm; Width: 2.9mm; Radiation Hardening: No; REACH SVHC: No SVHC; Lead Free: Lead Free; ComponentLink1URL: http://www.farnell.com/datasheets/1725706.pdf?src-supplier=Element14; ComponentLink1Description: http://www.farnell.com/datasheets/1725706.pdf?src-supplier=Element14; ComponentLink2URL: https://www.verical.com/server-webapp/html/getDatasheet?partID=146181&src-supplier=Verical; ComponentLink2Description: https://www.verical.com/server-webapp/html/getDatasheet?partID=146181&src-supplier=Verical; ComponentLink3URL: https://www.fairchildsemi.com/datasheets/QR/QRE1113.pdf?src-supplier=Avnet; ComponentLink3Description: https://www.fairchildsemi.com/datasheets/QR/QRE1113.pdf?src-supplier=Avnet; ComponentLink4URL: http://www.fairchildsemi.com/ds/QR/QRE1113.pdf?src-supplier=Avnet+Europe; ComponentLink4Description: http://www.fairchildsemi.com/ds/QR/QRE1113.pdf?src-supplier=Avnet+Europe; ComponentLink5URL: https://www.fairchildsemi.com/datasheets/QR/QRE1113.pdf?src-supplier=Digi-Key; ComponentLink5Description: https://www.fairchildsemi.com/datasheets/QR/QRE1113.pdf?src-supplier=Digi-Key; Supplier Part Number 1: 512-QRE1113GR; Category: Optical Switches, Reflective, Phototransistor Output
footprint QRE1113GR
pins: 1 ANODE, 2 CATHODE, 3 COLLECTOR, 4 EMITTER

## Resistor 1K 0805
designator R?, comment 1k
RES SMD 1K OHM 1% 1/8W 0805; Manufacturer: Vishay Dale; Manufacturer Part Number: CRCW08051K00FKEA; Voltage Rating: 150V; Power Rating: 125mW; Resistance: 1kR; Temperature Coefficient: 100ppm/°C; Supplier 1: Mouser; Stock 1: 338031; Pricing 1: 1=0.12, 10=0.06, 50=0.06, 100=0.034, 1000=0.02, 10000=0.01 (USD); Case/Package: 0805; Number of Pins: 2; Weight: 0.000194oz; Case Code (Imperial): 0805; Case Code (Metric): 2012; Contact Plating: Tin; Min Operating Temperature: -55°C; Max Operating Temperature: 155°C; Packaging: Tape and Reel; Package Quantity: 5000; Tolerance: 1%; Composition: Thick Film; Termination: SMD/SMT; Military Standard: Not; Voltage Rating (DC): 150V; Length: 2mm; Height: 0.45mm; Width: 1.25mm; Depth: 1.25mm; Radiation Hardening: No; REACH SVHC: Unknown; Lead Free: Lead Free; ComponentLink1URL: http://uk.rs-online.com/webdocs/0d98/0900766b80d98b26.pdf?src-supplier=RSComponents; ComponentLink1Description: http://uk.rs-online.com/webdocs/0d98/0900766b80d98b26.pdf?src-supplier=RSComponents; ComponentLink2URL: http://www.farnell.com/datasheets/2310790.pdf?src-supplier=Element14; ComponentLink2Description: http://www.farnell.com/datasheets/2310790.pdf?src-supplier=Element14; ComponentLink3URL: http://www.vishay.com/docs/20035/dcrcwe3.pdf?src-supplier=Avnet; ComponentLink3Description: http://www.vishay.com/docs/20035/dcrcwe3.pdf?src-supplier=Avnet; ComponentLink4URL: https://www.distrelec.biz/Web/Downloads/a_/en/flD-CRCW-e3_data_en.pdf?mime=application%2Fpdf&src-supplier=Distrelec; ComponentLink4Description: https://www.distrelec.biz/Web/Downloads/a_/en/flD-CRCW-e3_data_en.pdf?mime=application%2Fpdf&src-supplier=Distrelec; ComponentLink5URL: http://www.vishay.com/docs/20035/dcrcwe3.pdf?src-supplier=Future+Electronics; ComponentLink5Description: http://www.vishay.com/docs/20035/dcrcwe3.pdf?src-supplier=Future+Electronics; ComponentLink6URL: http://www.vishay.com/docs/20035/dcrcwe3.pdf?src-supplier=Avnet+Europe; ComponentLink6Description: http://www.vishay.com/docs/20035/dcrcwe3.pdf?src-supplier=Avnet+Europe; Supplier Part Number 1: 71-CRCW0805-1.0K-E3; Category: Thick Film Resistors - SMD
footprint 6-0805_M
pins: 1 28, 2 27

## Resistor 2K 0805
designator R?, comment 2K
RES SMD 2K OHM 1% 1/8W 0805; Manufacturer: Vishay; Manufacturer Part Number: CRCW08052K00FKEA; Resistance: 2kR; Power Rating: 125mW; Voltage Rating: 150V; Temperature Coefficient: 100ppm/°C; Supplier 1: Mouser; Stock 1: 85184; Pricing 1: 1=0.1, 10=0.066, 50=0.066, 100=0.047, 1000=0.027, 10000=0.015 (USD); Mount: Surface Mount; Case/Package: 0805; Number of Pins: 2; Weight: 0.000194oz; Case Code (Imperial): 0805; Case Code (Metric): 2012; Contact Plating: Tin; Number of Terminals: 2; Min Operating Temperature: -55°C; Max Operating Temperature: 155°C; Tolerance: 1%; Packaging: Tape and Reel; Composition: Thick Film; Package Quantity: 10; Termination: SMD/SMT; Number of Terminations: 2; Military Standard: Not; Max Power Dissipation: 125mW; Voltage Rating (DC): 150V; Working Voltage: 150V; Features: Automotive AEC-Q200; Length: 2mm; Height: 0.02inch; Width: 1.25mm; Depth: 1.25mm; Radiation Hardening: No; REACH SVHC: Unknown; Lead Free: Lead Free; ComponentLink1URL: https://www.verical.com/server-webapp/html/getDatasheet?partID=246953&src-supplier=Verical; ComponentLink1Description: https://www.verical.com/server-webapp/html/getDatasheet?partID=246953&src-supplier=Verical; ComponentLink2URL: http://www.alliedelec.com/m/d/0c934d6939ccefa68dbe0b96d821c8cf.pdf?src-supplier=Allied+Electronics; ComponentLink2Description: http://www.alliedelec.com/m/d/0c934d6939ccefa68dbe0b96d821c8cf.pdf?src-supplier=Allied+Electronics; ComponentLink3URL: http://www.vishay.com/docs/20035/dcrcwe3.pdf?src-supplier=Avnet+Europe; ComponentLink3Description: http://www.vishay.com/docs/20035/dcrcwe3.pdf?src-supplier=Avnet+Europe; ComponentLink4URL: http://www.farnell.com/datasheets/2111203.pdf?src-supplier=Element14; ComponentLink4Description: http://www.farnell.com/datasheets/2111203.pdf?src-supplier=Element14; ComponentLink5URL: http://www.mouser.com/ds/2/427/dcrcwe3-109170.pdf?src-supplier=Mouser; ComponentLink5Description: http://www.mouser.com/ds/2/427/dcrcwe3-109170.pdf?src-supplier=Mouser; ComponentLink6URL: http://www.vishay.com/docs/20035/dcrcwe3.pdf?src-supplier=Future+Electronics; ComponentLink6Description: http://www.vishay.com/docs/20035/dcrcwe3.pdf?src-supplier=Future+Electronics; ComponentLink7URL: http://www.vishay.com/docs/20035/dcrcwe3.pdf?src-supplier=Digi-Key; ComponentLink7Description: http://www.vishay.com/docs/20035/dcrcwe3.pdf?src-supplier=Digi-Key; ComponentLink8URL: http://www.vishay.com/docs/20035/dcrcwe3.pdf?src-supplier=Avnet; ComponentLink8Description: http://www.vishay.com/docs/20035/dcrcwe3.pdf?src-supplier=Avnet; Supplier Part Number 1: 71-CRCW0805-2.0K-E3; Category: Thick Film Resistors - SMD
footprint 6-0805_M
pins: 1 28, 2 27

## Resistor 4.7K 0805
designator R?, comment 4K7R
RES SMD 4.7K OHM 1% 1/8W 0805; Manufacturer: Vishay; Manufacturer Part Number: CRCW08054K70FKEA; Resistance: 4.7kR; Power Rating: 125mW; Voltage Rating: 150V; Temperature Coefficient: 100ppm/°C; Supplier 1: Mouser; Stock 1: 49115; Pricing 1: 1=0.1, 10=0.066, 50=0.066, 100=0.047, 1000=0.027, 10000=0.015 (USD); Case/Package: 0805; Weight: 0.000194oz; Case Code (Imperial): 0805; Case Code (Metric): 2012; Contact Plating: Tin; Min Operating Temperature: -55°C; Max Operating Temperature: 155°C; Tolerance: 1%; Packaging: Tape and Reel; Package Quantity: 10; Composition: Thick Film; Number of Terminations: 2; Termination: SMD/SMT; Military Standard: Not; Max Power Dissipation: 125mW; Voltage Rating (DC): 150V; Features: Automotive AEC-Q200; Length: 2mm; Height: 0.45mm; Width: 1.25mm; Depth: 1.25mm; Radiation Hardening: No; REACH SVHC: Unknown; Lead Free: Lead Free; ComponentLink1URL: http://uk.rs-online.com/webdocs/0d98/0900766b80d98b26.pdf?src-supplier=RSComponents; ComponentLink1Description: http://uk.rs-online.com/webdocs/0d98/0900766b80d98b26.pdf?src-supplier=RSComponents; ComponentLink2URL: http://www.vishay.com/docs/20035/dcrcwe3.pdf?src-supplier=Future+Electronics; ComponentLink2Description: http://www.vishay.com/docs/20035/dcrcwe3.pdf?src-supplier=Future+Electronics; ComponentLink3URL: http://www.alliedelec.com/m/d/0c934d6939ccefa68dbe0b96d821c8cf.pdf?src-supplier=Allied+Electronics; ComponentLink3Description: http://www.alliedelec.com/m/d/0c934d6939ccefa68dbe0b96d821c8cf.pdf?src-supplier=Allied+Electronics; ComponentLink4URL: http://www.mouser.com/ds/2/427/dcrcwe3-109170.pdf?src-supplier=Mouser; ComponentLink4Description: http://www.mouser.com/ds/2/427/dcrcwe3-109170.pdf?src-supplier=Mouser; ComponentLink5URL: https://www.distrelec.biz/Web/Downloads/a_/en/flD-CRCW-e3_data_en.pdf?mime=application%2Fpdf&src-supplier=Distrelec; ComponentLink5Description: https://www.distrelec.biz/Web/Downloads/a_/en/flD-CRCW-e3_data_en.pdf?mime=application%2Fpdf&src-supplier=Distrelec; ComponentLink6URL: http://www.vishay.com/docs/20035/dcrcwe3.pdf?src-supplier=Avnet; ComponentLink6Description: http://www.vishay.com/docs/20035/dcrcwe3.pdf?src-supplier=Avnet; ComponentLink7URL: http://www.vishay.com/docs/20035/dcrcwe3.pdf?src-supplier=Digi-Key; ComponentLink7Description: http://www.vishay.com/docs/20035/dcrcwe3.pdf?src-supplier=Digi-Key; Supplier Part Number 1: 71-CRCW0805-4.7K-E3; Category: Thick Film Resistors - SMD
footprint 6-0805_M
pins: 1 28, 2 27